# Altium schematic symbol library Connectors.SchLib: 3 symbols
Pins are listed as number, name and electrical type; pins without a type are passive.

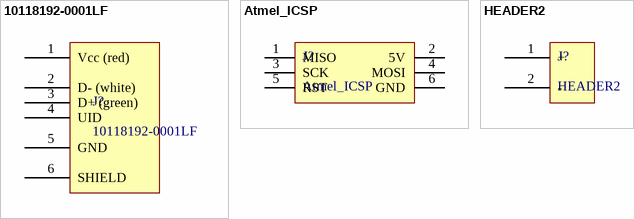
[diagram p0: symbols 10118192-0001LF to HEADER2]

## 10118192-0001LF
designator J?
CONN RCPT USB2.0 MICRO B SMD R/A
footprint 10118192-0001LF
pins: 1 Vcc (red), 2 D- (white), 3 D+ (green), 4 UID, 5 GND, 6 SHIELD

## Atmel_ICSP
designator J?
6-pin 0.100" ICSP header; Supplier 1: Digi-Key; Supplier Part Number 1: S2012EC-03-ND
footprint 6x2
pins: 1 MISO, 2 5V, 3 SCK, 4 MOSI, 5 RST, 6 GND

## HEADER2
designator J?
2-pin 0.100" header; Supplier 1: Mouser; Supplier Part Number 1: 855-M20-9990245; Supplier 2: Digi-Key; Supplier Part Number 2: 952-2261-ND
footprint 2x1
pins: 1 +, 2 -